# Altium schematic symbol library equalizer_project.SCHLIB: 49 symbols
Pins are listed as number, name and electrical type; pins without a type are passive.

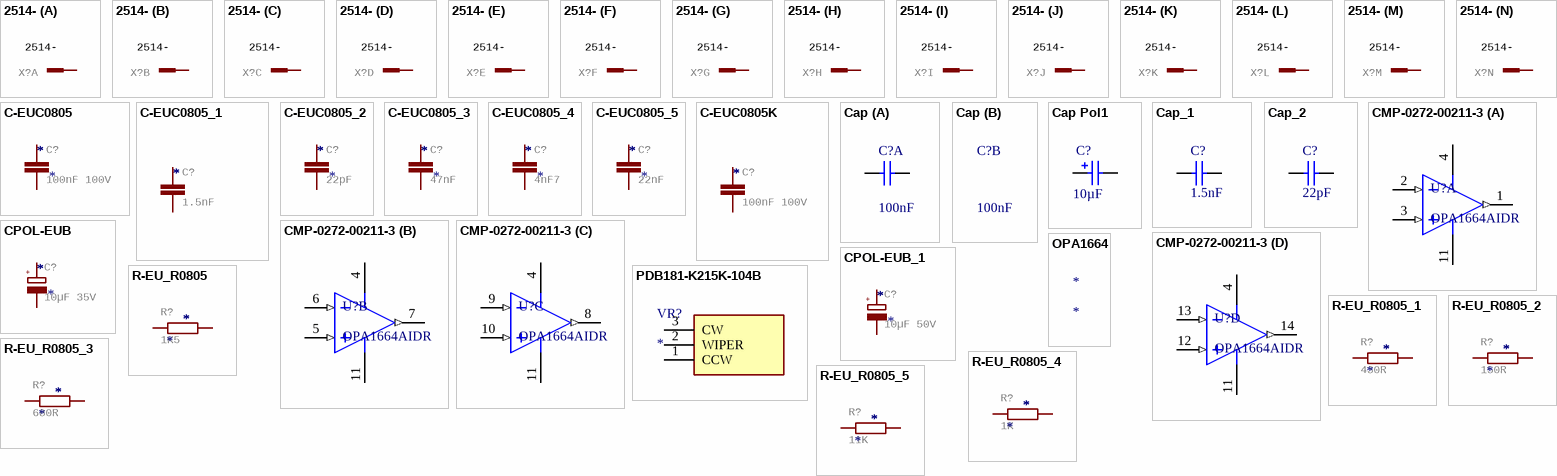
[diagram p0: symbols 2514- to R-EU_R0805_5]

## 2514-
designator X?
3M (TM) Pak 100 4-Wall Header   Source: 3M; GateName_1: -1; SymbolName_1: PINV; GateName_2: -2; SymbolName_2: PIN; GateName_3: -3; GateName_4: -4; GateName_5: -5; GateName_6: -6; GateName_7: -7; GateName_8: -8; GateName_9: -9; GateName_10: -10; GateName_11: -11; GateName_12: -12; GateName_13: -13; GateName_14: -14; SymbolName_3: PIN; SymbolName_4: PIN; SymbolName_5: PIN; SymbolName_6: PIN; SymbolName_7: PIN; SymbolName_8: PIN; SymbolName_9: PIN; SymbolName_10: PIN; SymbolName_11: PIN; SymbolName_12: PIN; SymbolName_13: PIN; SymbolName_14: PIN; LibraryName: con-3m; DeviceSetName: 2514-; MF: MF; MPN: MPN; OC_FARNELL: unknown; OC_NEWARK: unknown
footprint PAK100/2500-14
part A pins: 1 KL
part B pins: 2 KL
part C pins: 3 KL
part D pins: 4 KL
part E pins: 5 KL
part F pins: 6 KL
part G pins: 7 KL
part H pins: 8 KL
part I pins: 9 KL
part J pins: 10 KL
part K pins: 11 KL
part L pins: 12 KL
part M pins: 13 KL
part N pins: 14 KL

## C-EUC0805
designator C?  value 100nF 100V
CAPACITOR, European symbol; GateName_1: G$1; SymbolName_1: C-EU; DeviceName: C0805; LibraryName: rcl; DeviceSetName: C-EU; SPICEPREFIX: C
footprint C0805
pins: 1, 2

## C-EUC0805_1
designator C?  value 1.5nF
CAPACITOR, European symbol; GateName_1: G$1; SymbolName_1: C-EU; DeviceName: C0805; LibraryName: rcl; DeviceSetName: C-EU; SPICEPREFIX: C
footprint C0805
pins: 1, 2

## C-EUC0805_2
designator C?  value 22pF
CAPACITOR, European symbol; GateName_1: G$1; SymbolName_1: C-EU; DeviceName: C0805; LibraryName: rcl; DeviceSetName: C-EU; SPICEPREFIX: C
footprint C0805
pins: 1, 2

## C-EUC0805_3
designator C?  value 47nF
CAPACITOR, European symbol; GateName_1: G$1; SymbolName_1: C-EU; DeviceName: C0805; LibraryName: rcl; DeviceSetName: C-EU; SPICEPREFIX: C
footprint C0805
pins: 1, 2

## C-EUC0805_4
designator C?  value 4nF7
CAPACITOR, European symbol; GateName_1: G$1; SymbolName_1: C-EU; DeviceName: C0805; LibraryName: rcl; DeviceSetName: C-EU; SPICEPREFIX: C
footprint C0805
pins: 1, 2

## C-EUC0805_5
designator C?  value 22nF
CAPACITOR, European symbol; GateName_1: G$1; SymbolName_1: C-EU; DeviceName: C0805; LibraryName: rcl; DeviceSetName: C-EU; SPICEPREFIX: C
footprint C0805
pins: 1, 2

## C-EUC0805K
designator C?  value 100nF 100V
CAPACITOR, European symbol; GateName_1: G$1; SymbolName_1: C-EU; DeviceName: C0805K; LibraryName: rcl; DeviceSetName: C-EU; SPICEPREFIX: C
footprint C0805K
pins: 1, 2

## Cap
designator C?  value 100nF  (hidden comment: Cap)
Capacitor; Published: 8-Jun-2000; LatestRevisionDate: 17-Jul-2002; LatestRevisionNote: Re-released for DXP Platform.; PackageReference: RAD-0.3; Publisher: Altium Limited; PackageDescription: Radial Cap, Thru-Hole; 2 Leads; 0.3 in Pin Spacing
footprint RAD-0.3 (Radial Cap, Thru-Hole; 2 Leads; 0.3 in Pin Spacing)
simulation model CAP (Capacitor)
signal-integrity model Cap
part A pins: 1, 2

## Cap Pol1
designator C?  value 10µF  (hidden comment: Cap Pol1)
Polarized Capacitor (Radial); Published: 8-Jun-2000; LatestRevisionDate: 17-Jul-2002; LatestRevisionNote: Re-released for DXP Platform.; PackageReference: RB7.6-15; Publisher: Altium Limited; PackageDescription: Polarized Capacitor (Radial); 2 Leads
footprint RB7.6-15 (Polarized Capacitor (Radial); 2 Leads)
simulation model CAP (Capacitor)
signal-integrity model Cap Pol
pins: 1, 2
1 alternate drawing of the same symbol

## Cap_1
designator C?, comment value 1.5nF  (hidden comment: Cap)
Capacitor; Published: 8-Jun-2000; LatestRevisionDate: 17-Jul-2002; LatestRevisionNote: Re-released for DXP Platform.; PackageReference: RAD-0.3; Publisher: Altium Limited; PackageDescription: Radial Cap, Thru-Hole; 2 Leads; 0.3 in Pin Spacing
footprint RAD-0.3 (Radial Cap, Thru-Hole; 2 Leads; 0.3 in Pin Spacing)
simulation model CAP (Capacitor)
signal-integrity model Cap
pins: 1, 2

## Cap_2
designator C?, comment value 22pF  (hidden comment: Cap)
Capacitor; Published: 8-Jun-2000; LatestRevisionDate: 17-Jul-2002; LatestRevisionNote: Re-released for DXP Platform.; PackageReference: RAD-0.3; Publisher: Altium Limited; PackageDescription: Radial Cap, Thru-Hole; 2 Leads; 0.3 in Pin Spacing
footprint RAD-0.3 (Radial Cap, Thru-Hole; 2 Leads; 0.3 in Pin Spacing)
simulation model CAP (Capacitor)
signal-integrity model Cap
pins: 1, 2

## CMP-0272-00211-3
designator U?, comment OPA1664AIDR
Sound Plus Low-Power, Low-Noise and Distortion, Audio Operational Amplifier, 3 to 36 V, -40 to 85 degC, 14-pin SOIC (D14), Green (RoHS & no Sb/Br); Manufacturer: Texas Instruments; Iq per channel(Max)(mA): 1.5; IIB(Max)(pA): 1200000; Offset Drift(Typ)(uV/C): 2; Total Supply Voltage(Max)(+5V is 5, +/-5V is 10): 36; Rating: Catalog; Packing: LARGE T&R; Slew Rate(Typ)(V/us): 17; CMRR(Min)(dB): 106; Total Supply Voltage(Min)(+5V is 5, +/-5V is 10): 3; Sub Family: Audio Operational Amplifier, High Supply Voltage Amplifier (>=30V), Low Noise Amp (<=10nV/rtHz), Precision Amplifier; GBW(Typ)(MHz): 22; Number of Channels: 4; Code_JEDEC: MS-012; PartNumber: OPA1664AIDR; ComponentLink2Description: Datasheet; ComponentLink3URL: http://www.ti.com/lit/ml/mpds177g/mpds177g.pdf; PackageVersion: 4040047-5/M, 06/2011; ComponentLink1Description: Manufacturer URL; DatasheetVersion: SBOS489; Mounting Technology: Surface Mount; Vio (25C)(Max)(mV): 1.5; PackageReference: D0014A; ComponentLink1URL: http://www.ti.com/; ComponentLink2URL: http://www.ti.com/lit/ds/symlink/opa1664.pdf; Eco-Plan: Green (RoHS & no Sb/Br); PackageDescription: 14-Pin Plastic Small Outline, Body 8.65 x 3.9 mm, Pitch 1.27 mm; ComponentLink3Description: Package Specification
footprint D0014A_L (Footprint not found)
footprint D0014A_N (SOIC, 14-Leads, Body 8.75x4mm, Pitch 1.27mm, IPC Medium Density)
footprint D0014A_M (SOIC, 14-Leads, Body 8.75x4mm, Pitch 1.27mm, IPC Low Density)
pins on every part: 4 V+ (power), 11 V- (power)
part A pins: 1 OUT A (out), 2 IN A- (in), 3 IN A+ (in)
part B pins: 5 IN B+ (in), 6 IN B- (in), 7 OUT B (out)
part C pins: 8 OUT C (out), 9 IN C- (in), 10 IN C+ (in)
part D pins: 12 IN D+ (in), 13 IN D- (in), 14 OUT D (out)

## CPOL-EUB
designator C?  value 10µF 35V
POLARIZED CAPACITOR, European symbol; GateName_1: G$1; SymbolName_1: CPOL; DeviceName: B; DeviceSetName: CPOL-EU; LibraryName: rcl; SPICEPREFIX: C; +: +
footprint PANASONIC_B
pins: +, -

## CPOL-EUB_1
designator C?  value 10µF 50V
POLARIZED CAPACITOR, European symbol; GateName_1: G$1; SymbolName_1: CPOL; DeviceName: B; DeviceSetName: CPOL-EU; LibraryName: rcl; SPICEPREFIX: C; +: +
footprint PANASONIC_B
pins: +, -

## OPA1664
designator *
footprint Model Name (Footprint not found)
footprint OPA1664AIDR

## PDB181-K215K-104B
designator VR?
Variable Resistor; Manufacturer_Name: Bourns; Manufacturer_Part_Number: PDB181-K215K-104B; Height: 16.5mm
footprint PDB181K220K104B
pins: 1 CCW, 2 WIPER, 3 CW

## R-EU_R0805
designator R?  value 1K5
RESISTOR, European symbol; GateName_1: G$1; SymbolName_1: R-EU; DeviceName: R0805; DeviceSetName: R-EU_; LibraryName: rcl; SPICEPREFIX: R
footprint R0805
pins: 1, 2

## R-EU_R0805_1
designator R?  value 430R
RESISTOR, European symbol; GateName_1: G$1; SymbolName_1: R-EU; DeviceName: R0805; DeviceSetName: R-EU_; LibraryName: rcl; SPICEPREFIX: R
footprint R0805
pins: 1, 2

## R-EU_R0805_2
designator R?  value 150R
RESISTOR, European symbol; GateName_1: G$1; SymbolName_1: R-EU; DeviceName: R0805; DeviceSetName: R-EU_; LibraryName: rcl; SPICEPREFIX: R
footprint R0805
pins: 1, 2

## R-EU_R0805_3
designator R?  value 680R
RESISTOR, European symbol; GateName_1: G$1; SymbolName_1: R-EU; DeviceName: R0805; DeviceSetName: R-EU_; LibraryName: rcl; SPICEPREFIX: R
footprint R0805
pins: 1, 2

## R-EU_R0805_4
designator R?  value 1K
RESISTOR, European symbol; GateName_1: G$1; SymbolName_1: R-EU; DeviceName: R0805; DeviceSetName: R-EU_; LibraryName: rcl; SPICEPREFIX: R
footprint R0805
pins: 1, 2

## R-EU_R0805_5
designator R?  value 11K
RESISTOR, European symbol; GateName_1: G$1; SymbolName_1: R-EU; DeviceName: R0805; DeviceSetName: R-EU_; LibraryName: rcl; SPICEPREFIX: R
footprint R0805
pins: 1, 2

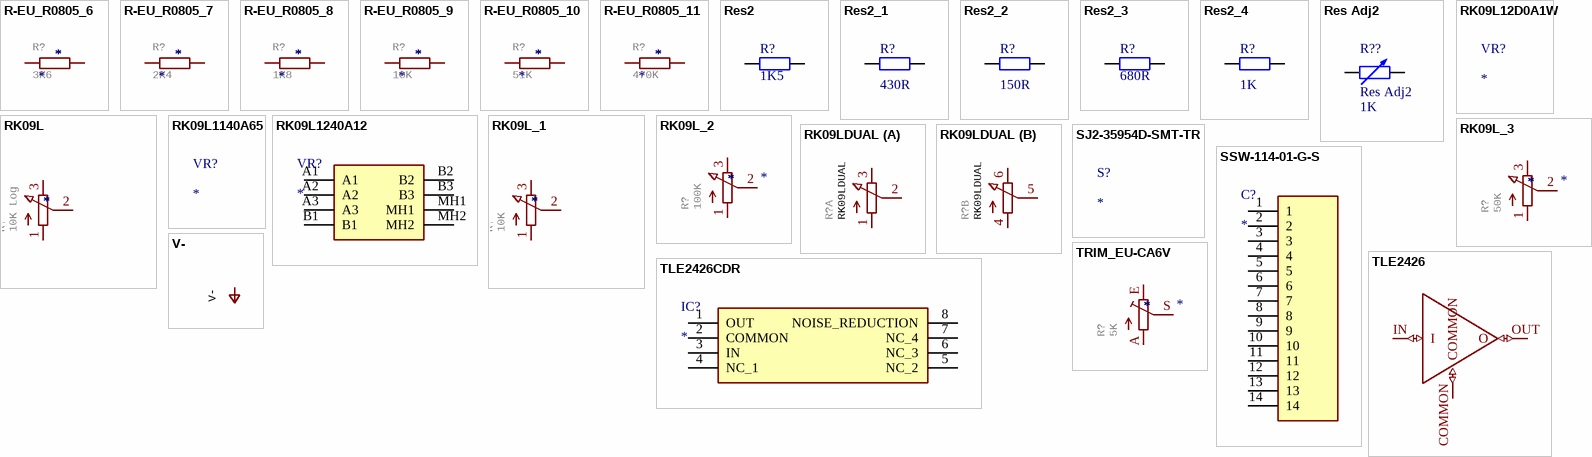
[diagram p1: symbols R-EU_R0805_6 to V-]

## R-EU_R0805_6
designator R?  value 3K6
RESISTOR, European symbol; GateName_1: G$1; SymbolName_1: R-EU; DeviceName: R0805; DeviceSetName: R-EU_; LibraryName: rcl; SPICEPREFIX: R
footprint R0805
pins: 1, 2

## R-EU_R0805_7
designator R?  value 2K4
RESISTOR, European symbol; GateName_1: G$1; SymbolName_1: R-EU; DeviceName: R0805; DeviceSetName: R-EU_; LibraryName: rcl; SPICEPREFIX: R
footprint R0805
pins: 1, 2

## R-EU_R0805_8
designator R?  value 1K8
RESISTOR, European symbol; GateName_1: G$1; SymbolName_1: R-EU; DeviceName: R0805; DeviceSetName: R-EU_; LibraryName: rcl; SPICEPREFIX: R
footprint R0805
pins: 1, 2

## R-EU_R0805_9
designator R?  value 10K
RESISTOR, European symbol; GateName_1: G$1; SymbolName_1: R-EU; DeviceName: R0805; DeviceSetName: R-EU_; LibraryName: rcl; SPICEPREFIX: R
footprint R0805
pins: 1, 2

## R-EU_R0805_10
designator R?  value 51K
RESISTOR, European symbol; GateName_1: G$1; SymbolName_1: R-EU; DeviceName: R0805; DeviceSetName: R-EU_; LibraryName: rcl; SPICEPREFIX: R
footprint R0805
pins: 1, 2

## R-EU_R0805_11
designator R?  value 470K
RESISTOR, European symbol; GateName_1: G$1; SymbolName_1: R-EU; DeviceName: R0805; DeviceSetName: R-EU_; LibraryName: rcl; SPICEPREFIX: R
footprint R0805
pins: 1, 2

## Res2
designator R?  value 1K5  (hidden comment: Res2)
Resistor; Published: 8-Jun-2000; LatestRevisionDate: 17-Jul-2002; LatestRevisionNote: Re-released for DXP Platform.; PackageReference: AXIAL-0.4; Publisher: Altium Limited; PackageDescription: Axial Device, Thru-Hole; 2 Leads; 0.4 in Pin Spacing
footprint AXIAL-0.4 (Axial Device, Thru-Hole; 2 Leads; 0.4 in Pin Spacing)
simulation model RESISTOR (Resistor)
signal-integrity model Res
pins: 1, 2

## Res2_1
designator R?, comment value 430R  (hidden comment: Res2)
Resistor; Published: 8-Jun-2000; LatestRevisionDate: 17-Jul-2002; LatestRevisionNote: Re-released for DXP Platform.; PackageReference: AXIAL-0.4; Publisher: Altium Limited; PackageDescription: Axial Device, Thru-Hole; 2 Leads; 0.4 in Pin Spacing
footprint AXIAL-0.4 (Axial Device, Thru-Hole; 2 Leads; 0.4 in Pin Spacing)
simulation model RESISTOR (Resistor)
signal-integrity model Res
pins: 1, 2

## Res2_2
designator R?, comment value 150R  (hidden comment: Res2)
Resistor; Published: 8-Jun-2000; LatestRevisionDate: 17-Jul-2002; LatestRevisionNote: Re-released for DXP Platform.; PackageReference: AXIAL-0.4; Publisher: Altium Limited; PackageDescription: Axial Device, Thru-Hole; 2 Leads; 0.4 in Pin Spacing
footprint AXIAL-0.4 (Axial Device, Thru-Hole; 2 Leads; 0.4 in Pin Spacing)
simulation model RESISTOR (Resistor)
signal-integrity model Res
pins: 1, 2

## Res2_3
designator R?, comment value 680R  (hidden comment: Res2)
Resistor; Published: 8-Jun-2000; LatestRevisionDate: 17-Jul-2002; LatestRevisionNote: Re-released for DXP Platform.; PackageReference: AXIAL-0.4; Publisher: Altium Limited; PackageDescription: Axial Device, Thru-Hole; 2 Leads; 0.4 in Pin Spacing
footprint AXIAL-0.4 (Axial Device, Thru-Hole; 2 Leads; 0.4 in Pin Spacing)
simulation model RESISTOR (Resistor)
signal-integrity model Res
pins: 1, 2

## Res2_4
designator R?, comment value 1K  (hidden comment: Res2)
Resistor; Published: 8-Jun-2000; LatestRevisionDate: 17-Jul-2002; LatestRevisionNote: Re-released for DXP Platform.; PackageReference: AXIAL-0.4; Publisher: Altium Limited; PackageDescription: Axial Device, Thru-Hole; 2 Leads; 0.4 in Pin Spacing
footprint AXIAL-0.4 (Axial Device, Thru-Hole; 2 Leads; 0.4 in Pin Spacing)
simulation model RESISTOR (Resistor)
signal-integrity model Res
pins: 1, 2

## Res Adj2
designator R??  value 1K
Variable Resistor; Set Position: 0.5; Published: 8-Jun-2000; LatestRevisionDate: 17-Jul-2002; LatestRevisionNote: Re-released for DXP Platform.; PackageReference: AXIAL-0.6; Publisher: Altium Limited; PackageDescription: Axial Device, Thru-Hole; 2 Leads; 0.6 in Pin Spacing
footprint AXIAL-0.6 (Axial Device, Thru-Hole; 2 Leads; 0.6 in Pin Spacing)
simulation model VRES (Variable Resistor)
signal-integrity model Res Adj
pins: 1, 2

## RK09L
designator R?  value 10K Log
GateName_1: G$1; SymbolName_1: POT_EU-; DeviceSetName: RK09L; LibraryName: SD_Pots
footprint RK09L1140A5E
pins: 1, 2, 3

## RK09L12D0A1W
designator VR?
Variable Resistor; Manufacturer_Name: ALPS; Manufacturer_Part_Number: RK09L12D0A1W; Datasheet Link: https://componentsearchengine.com/Datasheets/1/RK09L12D0A1W.pdf; Height: 25mm; Mouser2 Part Number: 688-RK09L12D0A1W; Mouser2 Price/Stock: https://www.mouser.com/Search/Refine.aspx?Keyword=688-RK09L12D0A1W
footprint RK09L12D0A1W

## RK09L1140A65
designator VR?
Variable Resistor; Manufacturer_Name: ALPS; Manufacturer_Part_Number: RK09L1140A65; Datasheet Link: https://componentsearchengine.com/Datasheets/1/RK09L1140A65.pdf; Height: 35mm; Mouser2 Part Number: 688-RK09L1140A65; Mouser2 Price/Stock: https://www.mouser.com/Search/Refine.aspx?Keyword=688-RK09L1140A65
footprint RK09L1140A65

## RK09L1240A12
designator VR?
Variable Resistor; Manufacturer_Name: ALPS; Manufacturer_Part_Number: RK09L1240A12; Datasheet Link: https://componentsearchengine.com/Datasheets/1/RK09L1240A12.pdf; Height: 30mm; Mouser2 Part Number: 688-RK09L1240A12; Mouser2 Price/Stock: https://www.mouser.com/Search/Refine.aspx?Keyword=688-RK09L1240A12
footprint RK09L1240A12
pins: A1, A2, A3, B1, B2, B3, MH1, MH2

## RK09L_1
designator R?  value 10K
GateName_1: G$1; SymbolName_1: POT_EU-; DeviceSetName: RK09L; LibraryName: SD_Pots
footprint RK09L1140A5E
pins: 1, 2, 3

## RK09L_2
designator R?  value 100K
GateName_1: G$1; SymbolName_1: POT_EU-; DeviceSetName: RK09L; LibraryName: SD_Pots
footprint RK09L1140A5E
pins: 1, 2, 3

## RK09L_3
designator R?  value 50K
GateName_1: G$1; SymbolName_1: POT_EU-; DeviceSetName: RK09L; LibraryName: SD_Pots
footprint RK09L1140A5E
pins: 1, 2, 3

## RK09LDUAL
designator R?
GateName_1: G$1; SymbolName_1: POT_EU-; GateName_2: G$2; SymbolName_2: POT_EU-; LibraryName: SD_Pots; DeviceSetName: RK09LDUAL
footprint RK09L1240A5E
footprint RK09L124A12
part A pins: 1, 2, 3
part B pins: 4 1, 5 2, 6 3

## SJ2-35954D-SMT-TR
designator S?
Switch; Manufacturer_Name: CUI Devices; Manufacturer_Part_Number: SJ2-35954D-SMT-TR; Description: Phone Connectors 3.5mm Audio Jack SMT 4cond Tip/Ring swtch; Datasheet Link: https://componentsearchengine.com/Datasheets/1/SJ2-35954D-SMT-TR.pdf; Height: 5mm; Mouser2 Part Number: 490-SJ2-35954DSMT-TR; Mouser2 Price/Stock: https://www.mouser.com/Search/Refine.aspx?Keyword=490-SJ2-35954DSMT-TR
footprint SJ235954DSMTTR

## SSW-114-01-G-S
designator C?
Capacitor; Manufacturer_Name: SAMTEC; Manufacturer_Part_Number: SSW-114-01-G-S; Datasheet Link: http://suddendocs.samtec.com/prints/ssw-1xx-xx-xxx-x-xx-xxx-xx-mkt.pdf; Height: 8.51mm
footprint SHDR14W79P0X254_1X14_3607X241X851P
pins: 1, 2, 3, 4, 5, 6, 7, 8, 9, 10, 11, 12, 13, 14

## TLE2426
designator U?  (value not drawn)
GateName_1: G$1; SymbolName_1: TLE2426; LibraryName: MyLib_SD; DeviceSetName: TLE2426
footprint TO92TLE
pins: COMMON (io), IN I (io), OUT O (io)

## TLE2426CDR
designator IC?
Integrated Circuit; Manufacturer_Name: Texas Instruments; Manufacturer_Part_Number: TLE2426CDR; Datasheet Link: http://www.ti.com/lit/gpn/TLE2426; Height: 1.75mm; Mouser2 Part Number: 595-TLE2426CDR; Mouser2 Price/Stock: https://www.mouser.com/Search/Refine.aspx?Keyword=595-TLE2426CDR
footprint SOIC127P600X175-8N
pins: 1 OUT, 2 COMMON, 3 IN, 4 NC_1, 5 NC_2, 6 NC_3, 7 NC_4, 8 NOISE_REDUCTION

## TRIM_EU-CA6V
designator R?  value 5K
POTENTIOMETER; GateName_1: 1; SymbolName_1: TPOT; DeviceName: CA6V; DeviceSetName: TRIM_EU-; LibraryName: pot
footprint CA6V
pins: A, E, S

## V-
designator P-?
SUPPLY SYMBOL; GateName_1: 1; SymbolName_1: V-; LibraryName: supply1; DeviceSetName: V-
pins: ?1 V- (power)